# Altium footprint library COMPONENTES.PcbLib: 191 footprints (part 1 of 12)
Each footprint in its own frame and in the unit in brackets; x right, y up, seen from the top. Pads: shape width x height; smd on the part's side, far side on the other; paste and mask are expansions set on the pad; w line width, h text height; cw(c..) or ccw(c..) is an arc to the next point about the centre after c.
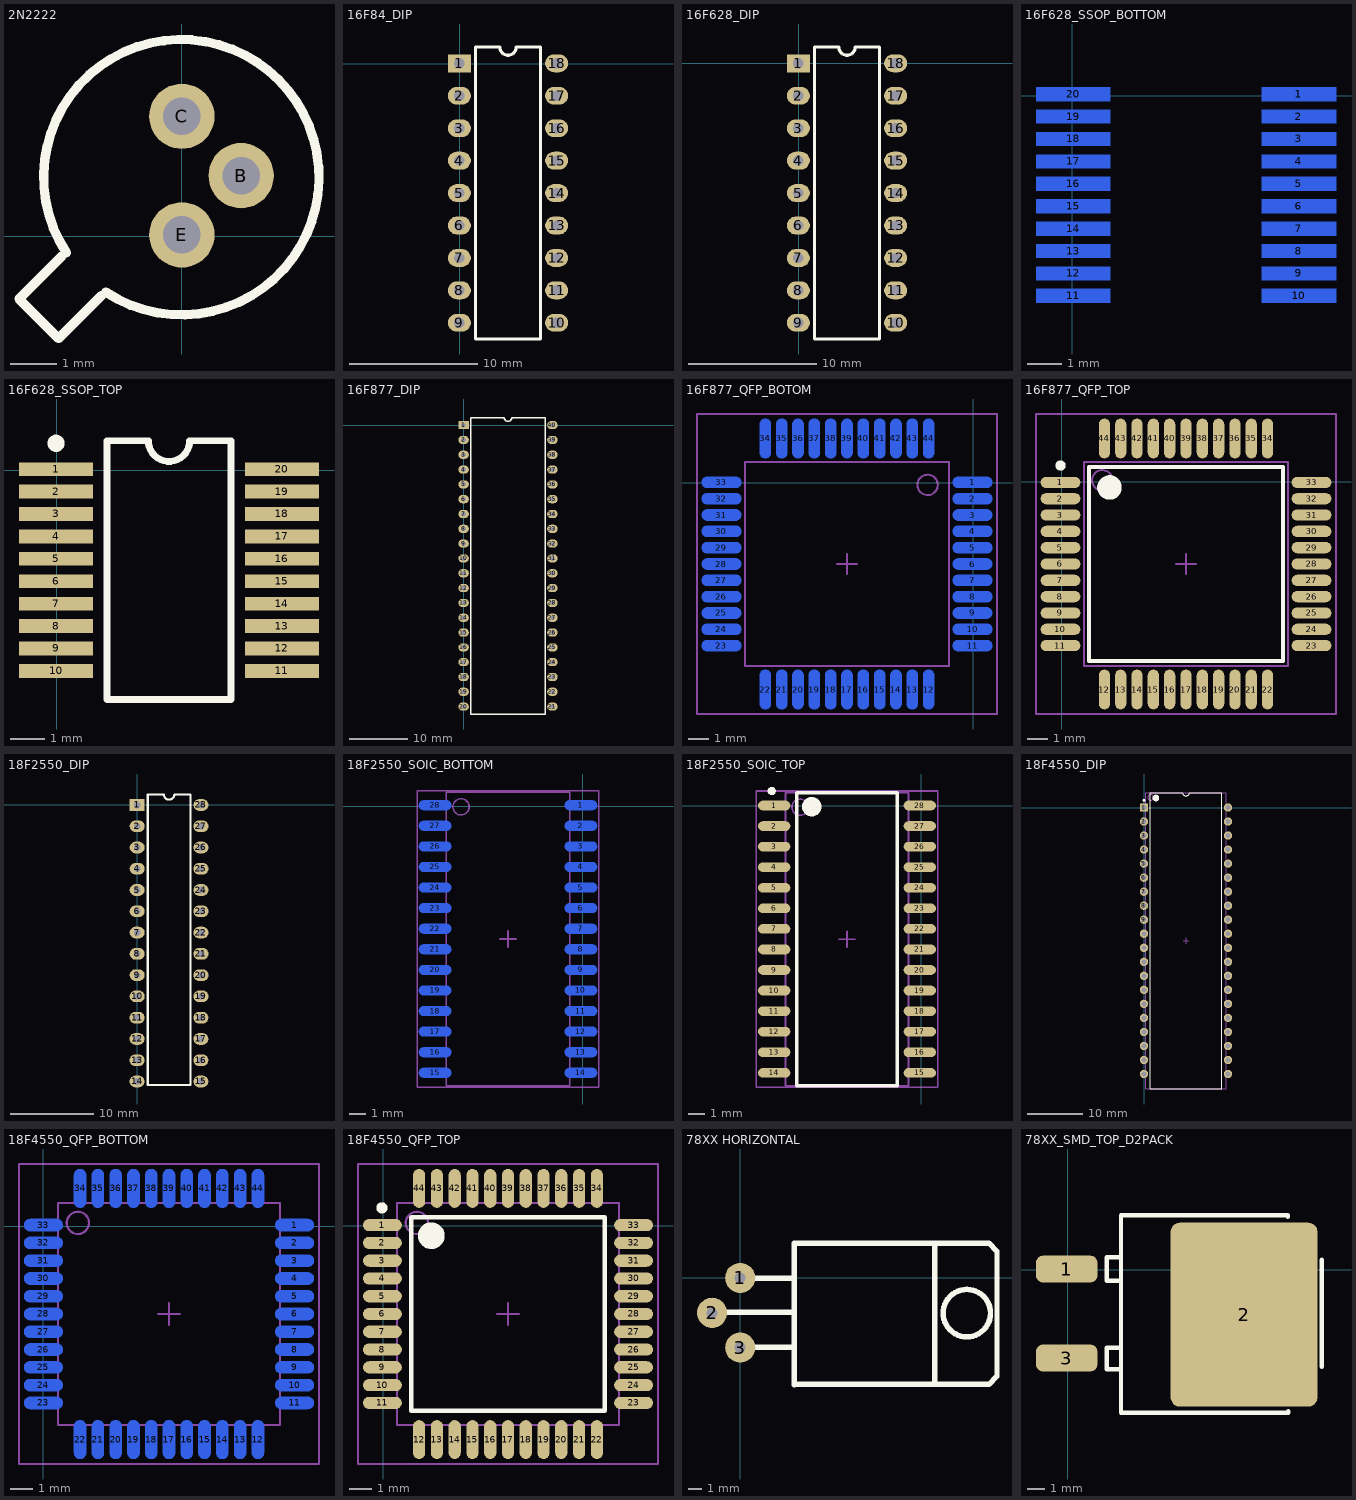
[diagram p0: the footprints below, top view; thin cyan lines are the x and y axes]

## 2N2222 [mm] "Can; 3 Leads; Pin Circle Dia. 2.54 mm; Lead Dia. 0.48 mm (max)"
height 5.33
pads (3):
  round 1.4 hole 0.8: B(1.27,1.295) C(0,2.565) E(0,0.025)
Top Overlay:
  lines w0.2: -2.572,-0.428 -3.491,-1.347 -2.642,-2.196 -1.723,-1.277 ; -2.479,-0.356 cw(c-0.012,1.262) -1.63,-1.205

## 16F84_DIP [mm]
pads (18):
  rect 1.8x1.4 hole 0.8: 1(-0.05,0.025)
  oval 1.8x1.4 hole 0.8: 2(-0.05,-2.515) 3(-0.05,-5.055) 4(-0.05,-7.595) 5(-0.05,-10.135) 6(-0.05,-12.675) 7(-0.05,-15.215) 8(-0.05,-17.755) 9(-0.05,-20.295) 10(7.57,-20.295) 11(7.57,-17.755) 12(7.57,-15.215) 13(7.57,-12.675) 14(7.57,-10.135) 15(7.57,-7.595) 16(7.57,-5.055) 17(7.57,-2.515) 18(7.57,0.025)
Top Overlay:
  lines w0.254: 1.22,-21.565 6.3,-21.565 6.3,1.295 4.395,1.295 cw(c3.76,1.295) 3.125,1.295 1.22,1.295 1.22,-21.565

## 16F628_DIP [mm]
pads (18):
  rect 1.8x1.4 hole 0.8: 1(-0.025,-0.025)
  oval 1.8x1.4 hole 0.8: 2(-0.025,-2.565) 3(-0.025,-5.105) 4(-0.025,-7.645) 5(-0.025,-10.185) 6(-0.025,-12.725) 7(-0.025,-15.265) 8(-0.025,-17.805) 9(-0.025,-20.345) 10(7.595,-20.345) 11(7.595,-17.805) 12(7.595,-15.265) 13(7.595,-12.725) 14(7.595,-10.185) 15(7.595,-7.645) 16(7.595,-5.105) 17(7.595,-2.565) 18(7.595,-0.025)
Top Overlay:
  lines w0.254: 1.245,-21.615 1.245,1.245 3.15,1.245 ccw(c3.785,1.245) 4.42,1.245 6.325,1.245 6.325,-21.615 1.245,-21.615

## 16F628_SSOP_BOTTOM [mm]
pads (20):
  rect 2.15x0.4 smd far side: 1(6.575,0.05) 2(6.575,-0.6) 3(6.575,-1.25) 4(6.575,-1.9) 5(6.575,-2.55) 6(6.575,-3.2) 7(6.575,-3.85) 8(6.575,-4.5) 9(6.575,-5.15) 10(6.575,-5.8) 11(0.025,-5.8) 12(0.025,-5.15) 13(0.025,-4.5) 14(0.025,-3.85) 15(0.025,-3.2) 16(0.025,-2.55) 17(0.025,-1.9) 18(0.025,-1.25) 19(0.025,-0.6) 20(0.025,0.05)
Bottom Overlay:
  circle w0.25: c0.025,0.8 r0.125
  lines w0.2: 1.5,-6.625 1.5,0.875 2.7,0.875 ccw(c3.3,0.875) 3.9,0.875 5.1,0.875 5.1,-6.625 1.5,-6.625

## 16F628_SSOP_TOP [mm]
pads (20):
  rect 2.15x0.4 smd: 1(-0.025,0.025) 2(-0.025,-0.625) 3(-0.025,-1.275) 4(-0.025,-1.925) 5(-0.025,-2.575) 6(-0.025,-3.225) 7(-0.025,-3.875) 8(-0.025,-4.525) 9(-0.025,-5.175) 10(-0.025,-5.825) 11(6.525,-5.825) 12(6.525,-5.175) 13(6.525,-4.525) 14(6.525,-3.875) 15(6.525,-3.225) 16(6.525,-2.575) 17(6.525,-1.925) 18(6.525,-1.275) 19(6.525,-0.625) 20(6.525,0.025)
Top Overlay:
  circle w0.25: c-0.025,0.775 r0.125
  lines w0.2: 1.45,-6.65 1.45,0.85 2.65,0.85 ccw(c3.25,0.85) 3.85,0.85 5.05,0.85 5.05,-6.65 1.45,-6.65

## 16F877_DIP [mm]
pads (40):
  rect 1.8x1.4 hole 0.8: 1(0,0)
  oval 1.8x1.4 hole 0.8: 2(0,-2.54) 3(0,-5.08) 4(0,-7.62) 5(0,-10.16) 6(0,-12.7) 7(0,-15.24) 8(0,-17.78) 9(0,-20.32) 10(0,-22.86) 11(0,-25.4) 12(0,-27.94) 13(0,-30.48) 14(0,-33.02) 15(0,-35.56) 16(0,-38.1) 17(0,-40.64) 18(0,-43.18) 19(0,-45.72) 20(0,-48.26) 21(15.24,-48.26) 22(15.24,-45.72) 23(15.24,-43.18) 24(15.24,-40.64) 25(15.24,-38.1) 26(15.24,-35.56) 27(15.24,-33.02) 28(15.24,-30.48) 29(15.24,-27.94) 30(15.24,-25.4) 31(15.24,-22.86) 32(15.24,-20.32) 33(15.24,-17.78) 34(15.24,-15.24) 35(15.24,-12.7) 36(15.24,-10.16) 37(15.24,-7.62) 38(15.24,-5.08) 39(15.24,-2.54) 40(15.24,0)
Top Overlay:
  lines w0.254: 1.27,-49.53 13.97,-49.53 13.97,1.27 8.255,1.27 cw(c7.62,1.27) 6.985,1.27 1.27,1.27 1.27,-49.53

## 16F877_QFP_BOTOM [mm]
pads (44):
  oval 1.95x0.55 smd far side: 1(-0.025,0.025) 2(-0.025,-0.775) 3(-0.025,-1.575) 4(-0.025,-2.375) 5(-0.025,-3.175) 6(-0.025,-3.975) 7(-0.025,-4.775) 8(-0.025,-5.575) 9(-0.025,-6.375) 10(-0.025,-7.175) 11(-0.025,-7.975) 23(-12.325,-7.975) 24(-12.325,-7.175) 25(-12.325,-6.375) 26(-12.325,-5.575) 27(-12.325,-4.775) 28(-12.325,-3.975) 29(-12.325,-3.175) 30(-12.325,-2.375) 31(-12.325,-1.575) 32(-12.325,-0.775) 33(-12.325,0.025)
  oval 0.55x1.95 smd far side: 12(-2.175,-10.125) 13(-2.975,-10.125) 14(-3.775,-10.125) 15(-4.575,-10.125) 16(-5.375,-10.125) 17(-6.175,-10.125) 18(-6.975,-10.125) 19(-7.775,-10.125) 20(-8.575,-10.125) 21(-9.375,-10.125) 22(-10.175,-10.125) 34(-10.175,2.175) 35(-9.375,2.175) 36(-8.575,2.175) 37(-7.775,2.175) 38(-6.975,2.175) 39(-6.175,2.175) 40(-5.375,2.175) 41(-4.575,2.175) 42(-3.775,2.175) 43(-2.975,2.175) 44(-2.175,2.175)
Bottom Overlay:
  circle w0.6: c-2.3,-0.1 r0.3
  circle w0.25: c0,0.8 r0.125
  lines w0.2: -10.925,-8.725 -1.425,-8.725 -1.425,0.775 -10.925,0.775 -10.925,-8.725
Mechanical 13:
  circle w0.1: c-2.225,-0.1 r0.5
  lines w0.1: -11.175,-8.975 -11.175,1.025 -1.175,1.025 -1.175,-8.975 -11.175,-8.975
Mechanical 15:
  lines w0.1: -6.675,-3.975 -5.675,-3.975 ; -6.175,-4.475 -6.175,-3.475 ; -13.525,-11.325 -13.525,3.375 1.175,3.375 1.175,-11.325 -13.525,-11.325
3D body: height 2.35, standoff 0, extent -11.175,-8.975 -1.175,1.025

## 16F877_QFP_TOP [mm]
pads (44):
  oval 1.95x0.55 smd: 1(-0.05,-0.025) 2(-0.05,-0.825) 3(-0.05,-1.625) 4(-0.05,-2.425) 5(-0.05,-3.225) 6(-0.05,-4.025) 7(-0.05,-4.825) 8(-0.05,-5.625) 9(-0.05,-6.425) 10(-0.05,-7.225) 11(-0.05,-8.025) 23(12.25,-8.025) 24(12.25,-7.225) 25(12.25,-6.425) 26(12.25,-5.625) 27(12.25,-4.825) 28(12.25,-4.025) 29(12.25,-3.225) 30(12.25,-2.425) 31(12.25,-1.625) 32(12.25,-0.825) 33(12.25,-0.025)
  oval 0.55x1.95 smd: 12(2.1,-10.175) 13(2.9,-10.175) 14(3.7,-10.175) 15(4.5,-10.175) 16(5.3,-10.175) 17(6.1,-10.175) 18(6.9,-10.175) 19(7.7,-10.175) 20(8.5,-10.175) 21(9.3,-10.175) 22(10.1,-10.175) 34(10.1,2.125) 35(9.3,2.125) 36(8.5,2.125) 37(7.7,2.125) 38(6.9,2.125) 39(6.1,2.125) 40(5.3,2.125) 41(4.5,2.125) 42(3.7,2.125) 43(2.9,2.125) 44(2.1,2.125)
Top Overlay:
  circle w0.6: c2.35,-0.275 r0.3
  circle w0.25: c-0.05,0.8 r0.125
  lines w0.2: 1.35,-8.775 10.85,-8.775 10.85,0.725 1.35,0.725 1.35,-8.775
Mechanical 13:
  circle w0.1: c2,0.075 r0.5
  lines w0.1: 1.1,-9.025 11.1,-9.025 11.1,0.975 1.1,0.975 1.1,-9.025
Mechanical 15:
  lines w0.1: 5.6,-4.025 6.6,-4.025 ; 6.1,-4.525 6.1,-3.525 ; -1.25,-11.375 13.45,-11.375 13.45,3.325 -1.25,3.325 -1.25,-11.375
3D body: height 2.35, standoff 0, extent 1.1,-9.025 11.1,0.975

## 18F2550_DIP [mm]
pads (28):
  rect 1.8x1.4 hole 0.8: 1(0,0)
  oval 1.8x1.4 hole 0.8: 2(0,-2.54) 3(0,-5.08) 4(0,-7.62) 5(0,-10.16) 6(0,-12.7) 7(0,-15.24) 8(0,-17.78) 9(0,-20.32) 10(0,-22.86) 11(-0.012,-25.4) 12(-0.012,-27.94) 13(-0.012,-30.48) 14(-0.012,-33.02) 15(7.613,-33.02) 16(7.613,-30.48) 17(7.613,-27.94) 18(7.613,-25.4) 19(7.62,-22.86) 20(7.62,-20.32) 21(7.62,-17.78) 22(7.62,-15.24) 23(7.62,-12.7) 24(7.62,-10.16) 25(7.62,-7.62) 26(7.62,-5.08) 27(7.62,-2.54) 28(7.62,0)
Top Overlay:
  lines w0.254: 1.27,-33.43 6.35,-33.43 6.35,1.27 4.445,1.27 cw(c3.81,1.27) 3.175,1.27 1.27,1.27 1.27,-33.43

## 18F2550_SOIC_BOTTOM [mm]
pads (28):
  oval 2x0.6 smd far side: 1(-0.125,0.05) 2(-0.125,-1.22) 3(-0.125,-2.49) 4(-0.125,-3.76) 5(-0.125,-5.03) 6(-0.125,-6.3) 7(-0.125,-7.57) 8(-0.125,-8.84) 9(-0.125,-10.11) 10(-0.125,-11.38) 11(-0.125,-12.65) 12(-0.125,-13.92) 13(-0.125,-15.19) 14(-0.125,-16.46) 15(-9.125,-16.46) 16(-9.125,-15.19) 17(-9.125,-13.92) 18(-9.125,-12.65) 19(-9.125,-11.38) 20(-9.125,-10.11) 21(-9.125,-8.84) 22(-9.125,-7.57) 23(-9.125,-6.3) 24(-9.125,-5.03) 25(-9.125,-3.76) 26(-9.125,-2.49) 27(-9.125,-1.22) 28(-9.125,0.05)
Bottom Overlay:
  circle w0.6: c-2.4,-0.025 r0.3
  circle w0.25: c-0.05,0.85 r0.125
  lines w0.2: -7.725,-17.255 -7.725,0.845 -1.525,0.845 -1.525,-17.255 -7.725,-17.255
Mechanical 13:
  circle w0.1: c-7.525,-0.05 r0.5
  lines w0.1: -8.425,-17.26 -0.825,-17.26 -0.825,0.85 -8.425,0.85 -8.425,-17.26
Mechanical 15:
  lines w0.1: -5.125,-8.205 -4.125,-8.205 ; -4.625,-8.705 -4.625,-7.705 ; -10.225,-17.355 0.975,-17.355 0.975,0.945 -10.225,0.945 -10.225,-17.355
3D body: height 2.65, standoff 0, extent -8.425,-17.26 -0.825,0.85

## 18F2550_SOIC_TOP [mm] "28-Pin Small Outline Integrated Circuit 1.27 mm Pitch, IPC High Density"
height 2.65
pads (28):
  oval 2x0.6 smd: 1(-9.075,0) 2(-9.075,-1.27) 3(-9.075,-2.54) 4(-9.075,-3.81) 5(-9.075,-5.08) 6(-9.075,-6.35) 7(-9.075,-7.62) 8(-9.075,-8.89) 9(-9.075,-10.16) 10(-9.075,-11.43) 11(-9.075,-12.7) 12(-9.075,-13.97) 13(-9.075,-15.24) 14(-9.075,-16.51) 15(-0.075,-16.51) 16(-0.075,-15.24) 17(-0.075,-13.97) 18(-0.075,-12.7) 19(-0.075,-11.43) 20(-0.075,-10.16) 21(-0.075,-8.89) 22(-0.075,-7.62) 23(-0.075,-6.35) 24(-0.075,-5.08) 25(-0.075,-3.81) 26(-0.075,-2.54) 27(-0.075,-1.27) 28(-0.075,0)
Top Overlay:
  circle w0.25: c-9.225,0.895 r0.125
  circle w0.6: c-6.75,-0.075 r0.3
  lines w0.2: -7.675,-17.305 -7.675,0.795 -1.475,0.795 -1.475,-17.305 -7.675,-17.305
Mechanical 13:
  circle w0.1: c-7.475,-0.1 r0.5
  lines w0.1: -8.375,-17.31 -8.375,0.8 -0.775,0.8 -0.775,-17.31 -8.375,-17.31
Mechanical 15:
  lines w0.1: -5.075,-8.255 -4.075,-8.255 ; -4.575,-8.755 -4.575,-7.755 ; -10.175,-17.405 -10.175,0.895 1.025,0.895 1.025,-17.405 -10.175,-17.405
3D body: height 2.65, standoff 0, extent -8.375,-17.31 -0.775,0.8

## 18F4550_DIP [mm]
pads (40):
  rect 1.5x1.5 hole 0.9: 1(-0.025,0.025)
  round 1.5 hole 0.9: 2(-0.025,-2.515) 3(-0.025,-5.055) 4(-0.025,-7.595) 5(-0.025,-10.135) 6(-0.025,-12.675) 7(-0.025,-15.215) 8(-0.025,-17.755) 9(-0.025,-20.295) 10(-0.025,-22.835) 11(-0.025,-25.375) 12(-0.025,-27.915) 13(-0.025,-30.455) 14(-0.025,-32.995) 15(-0.025,-35.535) 16(-0.025,-38.075) 17(-0.025,-40.615) 18(-0.025,-43.155) 19(-0.025,-45.695) 20(-0.025,-48.235) 21(15.215,-48.235) 22(15.215,-45.695) 23(15.215,-43.155) 24(15.215,-40.615) 25(15.215,-38.075) 26(15.215,-35.535) 27(15.215,-32.995) 28(15.215,-30.455) 29(15.215,-27.915) 30(15.215,-25.375) 31(15.215,-22.835) 32(15.215,-20.295) 33(15.215,-17.755) 34(15.215,-15.215) 35(15.215,-12.675) 36(15.215,-10.135) 37(15.215,-7.595) 38(15.215,-5.055) 39(15.215,-2.515) 40(15.215,0.025)
Top Overlay:
  circle w0.25: c-0.025,1.325 r0.125
  circle w0.6: c2.145,1.745 r0.3
  lines w0.2: 1.145,-50.955 1.145,2.745 6.96,2.745 ccw(c7.595,2.745) 8.23,2.745 14.045,2.745 14.045,-50.955 1.145,-50.955
Mechanical 13:
  circle w0.1: c1.195,1.845 r0.5
  lines w0.1: 0.295,-50.955 0.295,2.745 14.895,2.745 14.895,-50.955 0.295,-50.955
Mechanical 15:
  lines w0.1: 7.095,-24.105 8.095,-24.105 ; 7.595,-24.605 7.595,-23.605
3D body: height 6.35, standoff 0, extent 0.295,-50.955 14.895,2.745

## 18F4550_QFP_BOTTOM [mm]
pads (44):
  oval 1.75x0.55 smd far side: 1(11.3,0.05) 2(11.3,-0.75) 3(11.3,-1.55) 4(11.3,-2.35) 5(11.3,-3.15) 6(11.3,-3.95) 7(11.3,-4.75) 8(11.3,-5.55) 9(11.3,-6.35) 10(11.3,-7.15) 11(11.3,-7.95) 23(0,-7.95) 24(0,-7.15) 25(0,-6.35) 26(0,-5.55) 27(0,-4.75) 28(0,-3.95) 29(0,-3.15) 30(0,-2.35) 31(0,-1.55) 32(0,-0.75) 33(0,0.05)
  oval 0.55x1.75 smd far side: 12(9.65,-9.6) 13(8.85,-9.6) 14(8.05,-9.6) 15(7.25,-9.6) 16(6.45,-9.6) 17(5.65,-9.6) 18(4.85,-9.6) 19(4.05,-9.6) 20(3.25,-9.6) 21(2.45,-9.6) 22(1.65,-9.6) 34(1.65,1.7) 35(2.45,1.7) 36(3.25,1.7) 37(4.05,1.7) 38(4.85,1.7) 39(5.65,1.7) 40(6.45,1.7) 41(7.25,1.7) 42(8.05,1.7) 43(8.85,1.7) 44(9.65,1.7)
Bottom Overlay:
  circle w0.25: c11.3,0.825 r0.125
  circle w0.6: c9.225,-0.425 r0.3
  lines w0.2: 1.3,-8.3 1.3,0.4 10,0.4 10,-8.3 1.3,-8.3
Mechanical 13:
  circle w0.1: c1.55,0.15 r0.5
  lines w0.1: 0.65,-8.95 0.65,1.05 10.65,1.05 10.65,-8.95 0.65,-8.95
Mechanical 15:
  lines w0.1: 5.15,-3.95 6.15,-3.95 ; 5.65,-4.45 5.65,-3.45 ; -1.1,-10.7 -1.1,2.8 12.4,2.8 12.4,-10.7 -1.1,-10.7
3D body: height 1.2, standoff 0, extent 0.65,-8.95 10.65,1.05

## 18F4550_QFP_TOP [mm]
pads (44):
  oval 1.75x0.55 smd: 1(-0.025,0.025) 2(-0.025,-0.775) 3(-0.025,-1.575) 4(-0.025,-2.375) 5(-0.025,-3.175) 6(-0.025,-3.975) 7(-0.025,-4.775) 8(-0.025,-5.575) 9(-0.025,-6.375) 10(-0.025,-7.175) 11(-0.025,-7.975) 23(11.275,-7.975) 24(11.275,-7.175) 25(11.275,-6.375) 26(11.275,-5.575) 27(11.275,-4.775) 28(11.275,-3.975) 29(11.275,-3.175) 30(11.275,-2.375) 31(11.275,-1.575) 32(11.275,-0.775) 33(11.275,0.025)
  oval 0.55x1.75 smd: 12(1.625,-9.625) 13(2.425,-9.625) 14(3.225,-9.625) 15(4.025,-9.625) 16(4.825,-9.625) 17(5.625,-9.625) 18(6.425,-9.625) 19(7.225,-9.625) 20(8.025,-9.625) 21(8.825,-9.625) 22(9.625,-9.625) 34(9.625,1.675) 35(8.825,1.675) 36(8.025,1.675) 37(7.225,1.675) 38(6.425,1.675) 39(5.625,1.675) 40(4.825,1.675) 41(4.025,1.675) 42(3.225,1.675) 43(2.425,1.675) 44(1.625,1.675)
Top Overlay:
  circle w0.25: c-0.05,0.8 r0.125
  circle w0.6: c2.175,-0.45 r0.3
  lines w0.2: 1.275,-8.325 9.975,-8.325 9.975,0.375 1.275,0.375 1.275,-8.325
Mechanical 13:
  circle w0.1: c1.525,0.125 r0.5
  lines w0.1: 0.625,-8.975 0.625,1.025 10.625,1.025 10.625,-8.975 0.625,-8.975
Mechanical 15:
  lines w0.1: 5.125,-3.975 6.125,-3.975 ; 5.625,-4.475 5.625,-3.475 ; -1.125,-10.725 -1.125,2.775 12.375,2.775 12.375,-10.725 -1.125,-10.725
3D body: height 1.2, standoff 0, extent 0.625,-8.975 10.625,1.025

## 78XX HORIZONTAL [mm]
pads (3):
  round 2.2 hole 0.8: 1(0,0) 2(-2.051,-2.545) 3(0,-5.08)
Top Overlay:
  circle w0.4: c16.524,-2.57 r1.726
  lines w0.4: -2.051,-2.52 3.924,-2.52 ; -0.001,-5.045 3.924,-5.045 ; -0.001,-0.02 3.774,-0.02 ; 3.924,-7.795 3.924,2.53 18.124,2.53 18.724,1.93 18.724,-7.17 18.124,-7.77 3.924,-7.77 ; 14.174,-7.67 14.174,2.48

## 78XX_SMD_TOP_D2PACK [mm]
pads (3):
  rrect50% 3.5x1.524 smd: 1(-0.075,0.05) 3(-0.075,-5.025)
  rrect12% 8.38x10.49 smd: 2(10.05,-2.55)
Top Overlay:
  lines w0.254: 3.025,-5.75 2.95,-5.675 2.2,-5.675 2.225,-5.65 2.225,-4.45 3.025,-4.45 ; 3.025,-0.625 2.225,-0.625 2.225,0.7 2.2,0.725 3.025,0.725 ; 12.55,3.025 12.55,3.125 3.025,3.125 ; 12.575,-8.075 12.575,-8.15 3.025,-8.15 ; 14.475,-5.525 14.475,0.575 ; 3.025,-8.15 3.025,-8.15 ; 3.025,-8.15 3.025,-7.675 3.025,2.6 3.025,3.125 ; 3.025,3.125 3.025,3.125